# Altium integrated library TI Power Management Step-Down Regulator.IntLib: 531 symbols (part 29 of 32)
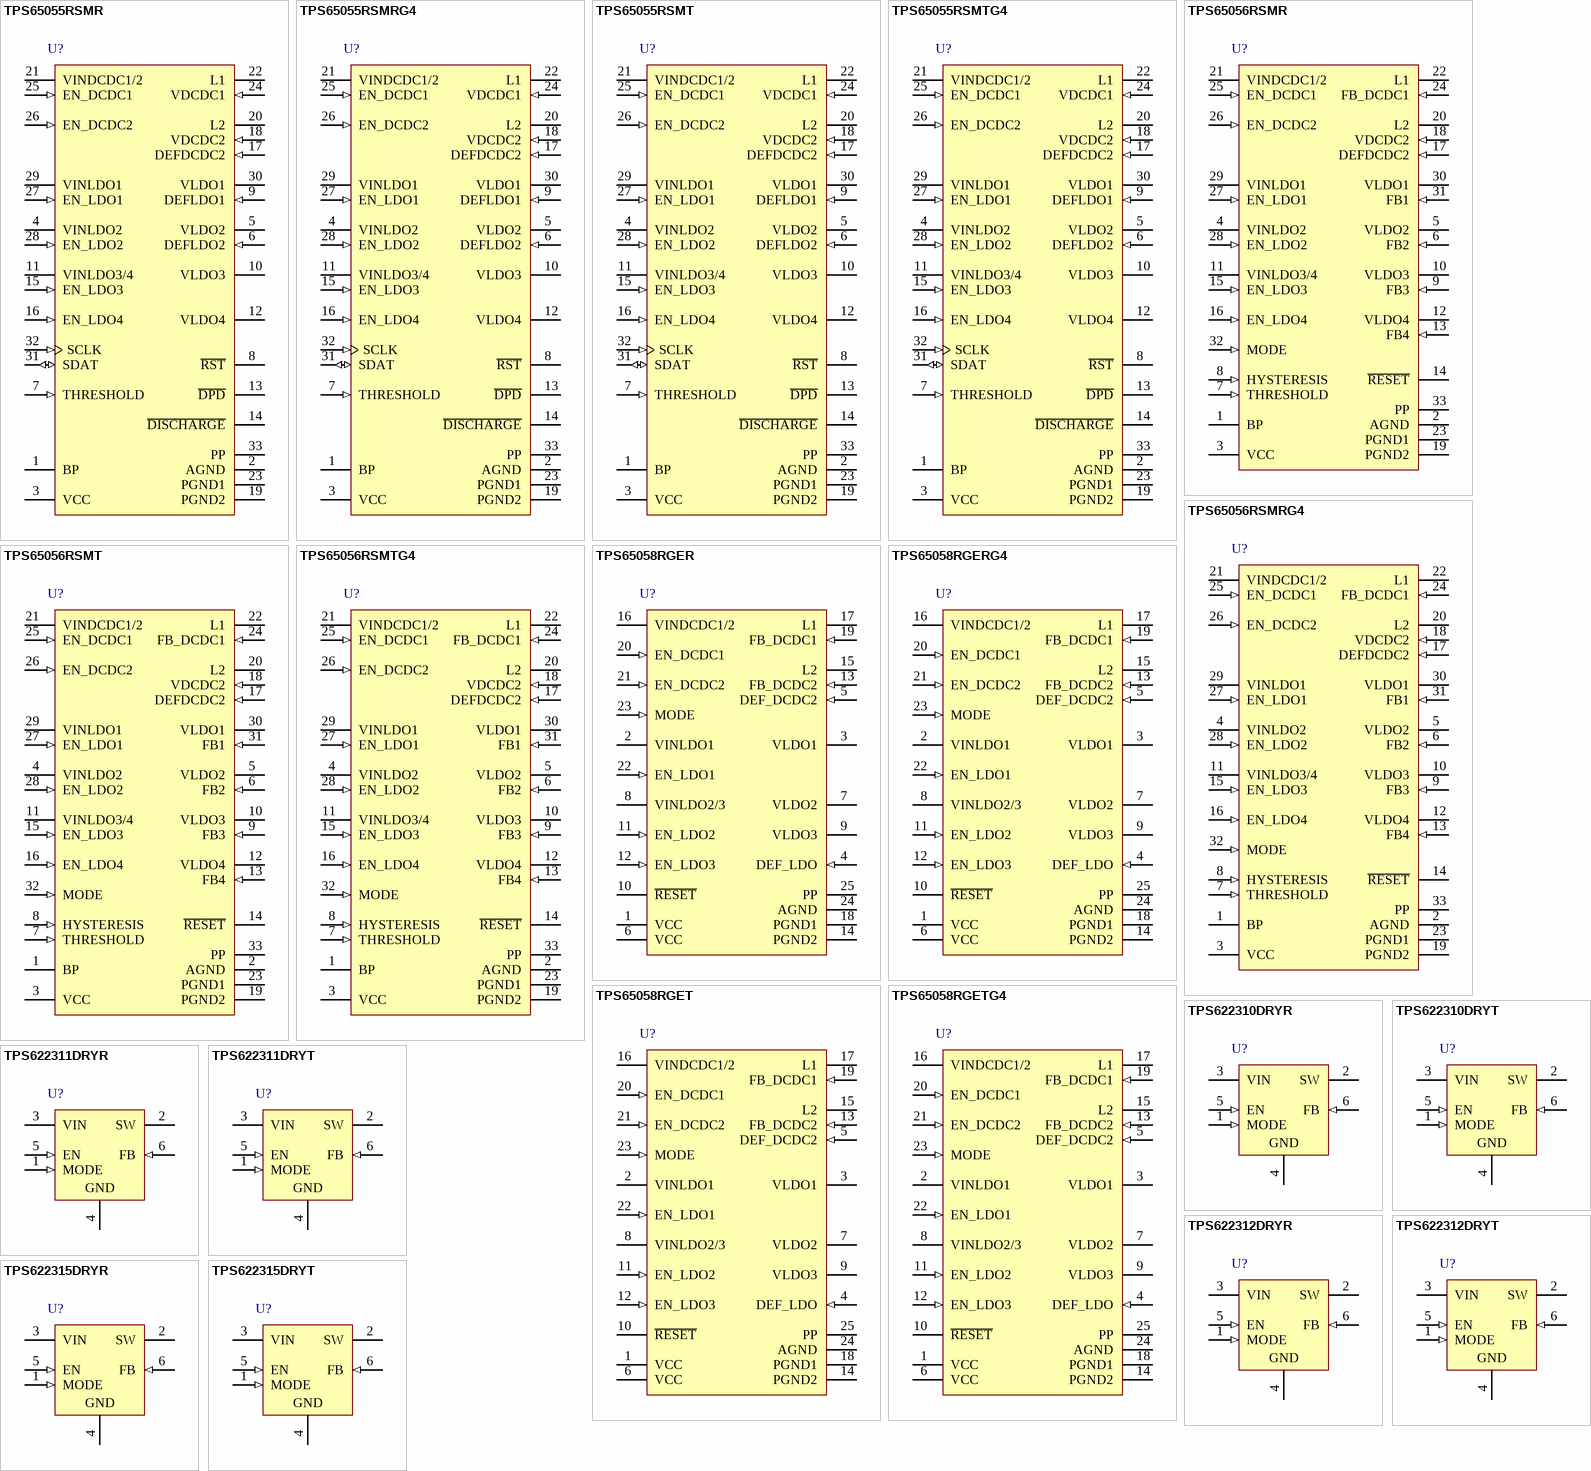
[diagram p46: symbols TPS65055RSMR to TPS622315DRYT]

## TPS65056RSMR
designator U?
Multi-Channel Power Management IC with 2.5 to 6 V Input, -40 to 85 degC, 32-Pin VQFN (RSM), Green (RoHS & no Sb/Br); PartNumber: TPS65056RSMR; Manufacturer: Texas Instruments; Dynamic Voltage Scaling: TRUE; Rating: Catalog; Regulated Outputs(#): 6; SubFamily: Step-Down Regulator; Vin(Min)(V): 2.5; DatasheetVersion: SLVS710A; PackageVersion: revB, Mar-2010; PackageReference: RSM32-2800X2800TP; PackageDescription: 32-Pin Plastic Quad Flat No-Lead, 4 x 4 mm Body, 0.4 mm Pitch, 2.8 x 2.8 mm Exposed Pad; Supplier 1: Digi-Key; Supplier Part Number 1: TPS65056RSMR-ND; Supplier 2: Mouser; Supplier Part Number 2: 595-TPS65056RSMR; Eco-Plan: Green (RoHS & no Sb/Br); Topology: Multi-Channel; Vin(Max)(V): 6; Mounting Technology: Surface Mount; ComponentLink1Description: Datasheet; ComponentLink1URL: http://www.ti.com/general/docs/lit/getliterature.tsp?genericPartNumber=TPS65056&fileType=pdf; ComponentLink2Description: URL Link1; ComponentLink2URL: Samples URL:http://www.ti.com/product/tps65056#samples
footprint RSM32-2800X2800TP (QFN, 32-Leads, Body 4x4mm, Pitch 0.4mm, Thermal Pad 2.8x2.8mm, TI Recommended)
pins: 1 BP "Input for bypass capacitor for internal reference.", 2 AGND (power) "Analog GND, connect to PGND and PowerPad", 3 VCC (power) "Power supply for digital and analog circuitry of DCDC1, DCDC2 and LDOs. This pin must be connected to the same voltage supply as VINDCDC1/2.", 4 VINLDO2 (power) "Input voltage for LDO2", 5 VLDO2 (power) "Output voltage of LDO2", 6 FB2 (in) "Feedback input for the external voltage divider.", 7 THRESHOLD (in) "Reset input", 8 HYSTERESIS (in) "Input for hysteresis on reset threshold", 9 FB3 (in) "Feedback input for the external voltage divider.", 10 VLDO3 (power) "Output voltage of LDO3", 11 VINLDO3/4 (power) "Input voltage for LDO3 and LDO4", 12 VLDO4 (power) "Output voltage of LDO4", 13 FB4 (in) "Feedback input for the external voltage divider.", 14 ~{RESET} (oc) "Open drain active low reset output, 100 ms reset delay time.", 15 EN_LDO3 (in) "Enable input for LDO3. Logic high enables the LDO, logic low disables the LDO.", 16 EN_LDO4 (in) "Enable input for LDO4. Logic high enables the LDO, logic low disables the LDO.", 17 DEFDCDC2 (in) "TPS65050 and TPS65051: Feedback pin for converter 2. Connect DEFDCDC2 to the center of the external resistor divider. TPS65052 and TPS65056: Select pin of converter 2 output voltage. High = 1.3 V, Low = 1 V TPS65054: Select (See Datasheet)", 18 VDCDC2 (in) "Feedback voltage sense input, connect directly to the output of converter 2.", 19 PGND2 (power) "GND for converter 2", 20 L2 (power) "Switch Pin of converter 2. Connected to Inductor.", 21 VINDCDC1/2 (power) "Input voltage for VDCDC1 and VDCDC2 step-down converter.This must be connected to the same voltage supply as VCC.", 22 L1 (power) "Switch pin of converter 1. Connected to Inductor .", 23 PGND1 (power) "GND for converter 1", 24 FB_DCDC1 (in) "Input to adjust output voltage of converter 1 between 0.6 V and VI. Connect external resistor divider between VOUT1, this pin, and GND.", 25 EN_DCDC1 (in) "Enable Input for converter 1, active high", 26 EN_DCDC2 (in) "Enable Input for converter 2, active high", 27 EN_LDO1 (in) "Enable input for LDO1. Logic high enables the LDO, logic low disables the LDO.", 28 EN_LDO2 (in) "Enable input for LDO2. Logic high enables the LDO, logic low disables the LDO.", 29 VINLDO1 (power) "Input voltage for LDO1", 30 VLDO1 (power) "Output voltage of LDO1", 31 FB1 (in) "Feedback input for the external voltage divider.", 32 MODE (in) "Select between Power Safe Mode and forced PWM Mode for DCDC1 and DCDC2. In Power Safe Mode, PFM is used at light loads, PWM for higher loads. If PIN is set to high level, forced PWM Mode is selected. If Pin has low level, (See Datasheet)", 33 PP (power) "Connect to GND"

## TPS65056RSMRG4
designator U?
Multi-Channel Power Management IC with 2.5 to 6 V Input, -40 to 85 degC, 32-Pin VQFN (RSM), Green (RoHS & no Sb/Br); PartNumber: TPS65056RSMRG4; Manufacturer: Texas Instruments; Dynamic Voltage Scaling: TRUE; Rating: Catalog; Regulated Outputs(#): 6; SubFamily: Step-Down Regulator; Vin(Min)(V): 2.5; DatasheetVersion: SLVS710A; PackageVersion: revB, Mar-2010; PackageReference: RSM32-2800X2800TP; PackageDescription: 32-Pin Plastic Quad Flat No-Lead, 4 x 4 mm Body, 0.4 mm Pitch, 2.8 x 2.8 mm Exposed Pad; Supplier 1: Digi-Key; Supplier Part Number 1: TPS65056RSMRG4-ND; Supplier 2: Mouser; Supplier Part Number 2: 595-TPS65056RSMRG4; Eco-Plan: Green (RoHS & no Sb/Br); Topology: Multi-Channel; Vin(Max)(V): 6; Mounting Technology: Surface Mount; ComponentLink1Description: Datasheet; ComponentLink1URL: http://www.ti.com/general/docs/lit/getliterature.tsp?genericPartNumber=TPS65056&fileType=pdf; ComponentLink2Description: URL Link1; ComponentLink2URL: Samples URL:http://www.ti.com/product/tps65056#samples
footprint RSM32-2800X2800TP (QFN, 32-Leads, Body 4x4mm, Pitch 0.4mm, Thermal Pad 2.8x2.8mm, TI Recommended)
pins: 1 BP "Input for bypass capacitor for internal reference.", 2 AGND (power) "Analog GND, connect to PGND and PowerPad", 3 VCC (power) "Power supply for digital and analog circuitry of DCDC1, DCDC2 and LDOs. This pin must be connected to the same voltage supply as VINDCDC1/2.", 4 VINLDO2 (power) "Input voltage for LDO2", 5 VLDO2 (power) "Output voltage of LDO2", 6 FB2 (in) "Feedback input for the external voltage divider.", 7 THRESHOLD (in) "Reset input", 8 HYSTERESIS (in) "Input for hysteresis on reset threshold", 9 FB3 (in) "Feedback input for the external voltage divider.", 10 VLDO3 (power) "Output voltage of LDO3", 11 VINLDO3/4 (power) "Input voltage for LDO3 and LDO4", 12 VLDO4 (power) "Output voltage of LDO4", 13 FB4 (in) "Feedback input for the external voltage divider.", 14 ~{RESET} (oc) "Open drain active low reset output, 100 ms reset delay time.", 15 EN_LDO3 (in) "Enable input for LDO3. Logic high enables the LDO, logic low disables the LDO.", 16 EN_LDO4 (in) "Enable input for LDO4. Logic high enables the LDO, logic low disables the LDO.", 17 DEFDCDC2 (in) "TPS65050 and TPS65051: Feedback pin for converter 2. Connect DEFDCDC2 to the center of the external resistor divider. TPS65052 and TPS65056: Select pin of converter 2 output voltage. High = 1.3 V, Low = 1 V TPS65054: Select (See Datasheet)", 18 VDCDC2 (in) "Feedback voltage sense input, connect directly to the output of converter 2.", 19 PGND2 (power) "GND for converter 2", 20 L2 (power) "Switch Pin of converter 2. Connected to Inductor.", 21 VINDCDC1/2 (power) "Input voltage for VDCDC1 and VDCDC2 step-down converter.This must be connected to the same voltage supply as VCC.", 22 L1 (power) "Switch pin of converter 1. Connected to Inductor .", 23 PGND1 (power) "GND for converter 1", 24 FB_DCDC1 (in) "Input to adjust output voltage of converter 1 between 0.6 V and VI. Connect external resistor divider between VOUT1, this pin, and GND.", 25 EN_DCDC1 (in) "Enable Input for converter 1, active high", 26 EN_DCDC2 (in) "Enable Input for converter 2, active high", 27 EN_LDO1 (in) "Enable input for LDO1. Logic high enables the LDO, logic low disables the LDO.", 28 EN_LDO2 (in) "Enable input for LDO2. Logic high enables the LDO, logic low disables the LDO.", 29 VINLDO1 (power) "Input voltage for LDO1", 30 VLDO1 (power) "Output voltage of LDO1", 31 FB1 (in) "Feedback input for the external voltage divider.", 32 MODE (in) "Select between Power Safe Mode and forced PWM Mode for DCDC1 and DCDC2. In Power Safe Mode, PFM is used at light loads, PWM for higher loads. If PIN is set to high level, forced PWM Mode is selected. If Pin has low level, (See Datasheet)", 33 PP (power) "Connect to GND"

## TPS65056RSMT
designator U?
Multi-Channel Power Management IC with 2.5 to 6 V Input, -40 to 85 degC, 32-Pin VQFN (RSM), Green (RoHS & no Sb/Br); PartNumber: TPS65056RSMT; Manufacturer: Texas Instruments; Dynamic Voltage Scaling: TRUE; Rating: Catalog; Regulated Outputs(#): 6; SubFamily: Step-Down Regulator; Vin(Min)(V): 2.5; DatasheetVersion: SLVS710A; PackageVersion: revB, Mar-2010; PackageReference: RSM32-2800X2800TP; PackageDescription: 32-Pin Plastic Quad Flat No-Lead, 4 x 4 mm Body, 0.4 mm Pitch, 2.8 x 2.8 mm Exposed Pad; Supplier 1: Digi-Key; Supplier Part Number 1: 296-21561-2-ND; Supplier 2: Digi-Key; Supplier Part Number 2: 296-21561-1-ND; Supplier 3: Digi-Key; Supplier Part Number 3: 296-21561-6-ND; Supplier 4: Farnell; Supplier Part Number 4: 1569532; Supplier 5: Newark; Supplier Part Number 5: 30M1849; Supplier 6: Mouser; Supplier Part Number 6: 595-TPS65056RSMT; Eco-Plan: Green (RoHS & no Sb/Br); Topology: Multi-Channel; Vin(Max)(V): 6; Mounting Technology: Surface Mount; ComponentLink1Description: Datasheet; ComponentLink1URL: http://www.ti.com/general/docs/lit/getliterature.tsp?genericPartNumber=TPS65056&fileType=pdf; ComponentLink2Description: URL Link1; ComponentLink2URL: Samples URL:http://www.ti.com/product/tps65056#samples
footprint RSM32-2800X2800TP (QFN, 32-Leads, Body 4x4mm, Pitch 0.4mm, Thermal Pad 2.8x2.8mm, TI Recommended)
pins: 1 BP "Input for bypass capacitor for internal reference.", 2 AGND (power) "Analog GND, connect to PGND and PowerPad", 3 VCC (power) "Power supply for digital and analog circuitry of DCDC1, DCDC2 and LDOs. This pin must be connected to the same voltage supply as VINDCDC1/2.", 4 VINLDO2 (power) "Input voltage for LDO2", 5 VLDO2 (power) "Output voltage of LDO2", 6 FB2 (in) "Feedback input for the external voltage divider.", 7 THRESHOLD (in) "Reset input", 8 HYSTERESIS (in) "Input for hysteresis on reset threshold", 9 FB3 (in) "Feedback input for the external voltage divider.", 10 VLDO3 (power) "Output voltage of LDO3", 11 VINLDO3/4 (power) "Input voltage for LDO3 and LDO4", 12 VLDO4 (power) "Output voltage of LDO4", 13 FB4 (in) "Feedback input for the external voltage divider.", 14 ~{RESET} (oc) "Open drain active low reset output, 100 ms reset delay time.", 15 EN_LDO3 (in) "Enable input for LDO3. Logic high enables the LDO, logic low disables the LDO.", 16 EN_LDO4 (in) "Enable input for LDO4. Logic high enables the LDO, logic low disables the LDO.", 17 DEFDCDC2 (in) "TPS65050 and TPS65051: Feedback pin for converter 2. Connect DEFDCDC2 to the center of the external resistor divider. TPS65052 and TPS65056: Select pin of converter 2 output voltage. High = 1.3 V, Low = 1 V TPS65054: Select (See Datasheet)", 18 VDCDC2 (in) "Feedback voltage sense input, connect directly to the output of converter 2.", 19 PGND2 (power) "GND for converter 2", 20 L2 (power) "Switch Pin of converter 2. Connected to Inductor.", 21 VINDCDC1/2 (power) "Input voltage for VDCDC1 and VDCDC2 step-down converter.This must be connected to the same voltage supply as VCC.", 22 L1 (power) "Switch pin of converter 1. Connected to Inductor .", 23 PGND1 (power) "GND for converter 1", 24 FB_DCDC1 (in) "Input to adjust output voltage of converter 1 between 0.6 V and VI. Connect external resistor divider between VOUT1, this pin, and GND.", 25 EN_DCDC1 (in) "Enable Input for converter 1, active high", 26 EN_DCDC2 (in) "Enable Input for converter 2, active high", 27 EN_LDO1 (in) "Enable input for LDO1. Logic high enables the LDO, logic low disables the LDO.", 28 EN_LDO2 (in) "Enable input for LDO2. Logic high enables the LDO, logic low disables the LDO.", 29 VINLDO1 (power) "Input voltage for LDO1", 30 VLDO1 (power) "Output voltage of LDO1", 31 FB1 (in) "Feedback input for the external voltage divider.", 32 MODE (in) "Select between Power Safe Mode and forced PWM Mode for DCDC1 and DCDC2. In Power Safe Mode, PFM is used at light loads, PWM for higher loads. If PIN is set to high level, forced PWM Mode is selected. If Pin has low level, (See Datasheet)", 33 PP (power) "Connect to GND"

## TPS65056RSMTG4
designator U?
Multi-Channel Power Management IC with 2.5 to 6 V Input, -40 to 85 degC, 32-Pin VQFN (RSM), Green (RoHS & no Sb/Br); PartNumber: TPS65056RSMTG4; Manufacturer: Texas Instruments; Dynamic Voltage Scaling: TRUE; Rating: Catalog; Regulated Outputs(#): 6; SubFamily: Step-Down Regulator; Vin(Min)(V): 2.5; DatasheetVersion: SLVS710A; PackageVersion: revB, Mar-2010; PackageReference: RSM32-2800X2800TP; PackageDescription: 32-Pin Plastic Quad Flat No-Lead, 4 x 4 mm Body, 0.4 mm Pitch, 2.8 x 2.8 mm Exposed Pad; Supplier 1: Digi-Key; Supplier Part Number 1: TPS65056RSMTG4-ND; Supplier 2: Newark; Supplier Part Number 2: 34M0205; Supplier 3: Mouser; Supplier Part Number 3: 595-TPS65056RSMTG4; Eco-Plan: Green (RoHS & no Sb/Br); Topology: Multi-Channel; Vin(Max)(V): 6; Mounting Technology: Surface Mount; ComponentLink1Description: Datasheet; ComponentLink1URL: http://www.ti.com/general/docs/lit/getliterature.tsp?genericPartNumber=TPS65056&fileType=pdf; ComponentLink2Description: URL Link1; ComponentLink2URL: Samples URL:http://www.ti.com/product/tps54611#samples
footprint RSM32-2800X2800TP (QFN, 32-Leads, Body 4x4mm, Pitch 0.4mm, Thermal Pad 2.8x2.8mm, TI Recommended)
pins: 1 BP "Input for bypass capacitor for internal reference.", 2 AGND (power) "Analog GND, connect to PGND and PowerPad", 3 VCC (power) "Power supply for digital and analog circuitry of DCDC1, DCDC2 and LDOs. This pin must be connected to the same voltage supply as VINDCDC1/2.", 4 VINLDO2 (power) "Input voltage for LDO2", 5 VLDO2 (power) "Output voltage of LDO2", 6 FB2 (in) "Feedback input for the external voltage divider.", 7 THRESHOLD (in) "Reset input", 8 HYSTERESIS (in) "Input for hysteresis on reset threshold", 9 FB3 (in) "Feedback input for the external voltage divider.", 10 VLDO3 (power) "Output voltage of LDO3", 11 VINLDO3/4 (power) "Input voltage for LDO3 and LDO4", 12 VLDO4 (power) "Output voltage of LDO4", 13 FB4 (in) "Feedback input for the external voltage divider.", 14 ~{RESET} (oc) "Open drain active low reset output, 100 ms reset delay time.", 15 EN_LDO3 (in) "Enable input for LDO3. Logic high enables the LDO, logic low disables the LDO.", 16 EN_LDO4 (in) "Enable input for LDO4. Logic high enables the LDO, logic low disables the LDO.", 17 DEFDCDC2 (in) "TPS65050 and TPS65051: Feedback pin for converter 2. Connect DEFDCDC2 to the center of the external resistor divider. TPS65052 and TPS65056: Select pin of converter 2 output voltage. High = 1.3 V, Low = 1 V TPS65054: Select (See Datasheet)", 18 VDCDC2 (in) "Feedback voltage sense input, connect directly to the output of converter 2.", 19 PGND2 (power) "GND for converter 2", 20 L2 (power) "Switch Pin of converter 2. Connected to Inductor.", 21 VINDCDC1/2 (power) "Input voltage for VDCDC1 and VDCDC2 step-down converter.This must be connected to the same voltage supply as VCC.", 22 L1 (power) "Switch pin of converter 1. Connected to Inductor .", 23 PGND1 (power) "GND for converter 1", 24 FB_DCDC1 (in) "Input to adjust output voltage of converter 1 between 0.6 V and VI. Connect external resistor divider between VOUT1, this pin, and GND.", 25 EN_DCDC1 (in) "Enable Input for converter 1, active high", 26 EN_DCDC2 (in) "Enable Input for converter 2, active high", 27 EN_LDO1 (in) "Enable input for LDO1. Logic high enables the LDO, logic low disables the LDO.", 28 EN_LDO2 (in) "Enable input for LDO2. Logic high enables the LDO, logic low disables the LDO.", 29 VINLDO1 (power) "Input voltage for LDO1", 30 VLDO1 (power) "Output voltage of LDO1", 31 FB1 (in) "Feedback input for the external voltage divider.", 32 MODE (in) "Select between Power Safe Mode and forced PWM Mode for DCDC1 and DCDC2. In Power Safe Mode, PFM is used at light loads, PWM for higher loads. If PIN is set to high level, forced PWM Mode is selected. If Pin has low level, (See Datasheet)", 33 PP (power) "Connect to GND"

## TPS65058RGER
designator U?
Multi-Channel Power Management IC with 2.5 to 6 V Input, -40 to 85 degC, 24-Pin VQFN (RGE), Green (RoHS & no Sb/Br); PartNumber: TPS65058RGER; Manufacturer: Texas Instruments; Dynamic Voltage Scaling: TRUE; Rating: Catalog; Regulated Outputs(#): 5; SubFamily: PMIC Solutions with and without Battery Charger; Vin(Max)(V): 6; Vin(Min)(V): 2.5; DatasheetVersion: SLVS851A; PackageVersion: revG, Jul-2011; PackageReference: RGE24-2700X2700TP; PackageDescription: 24-Pin Plastic Quad Flatpack No-Lead, 4 x 4 mm Body, 0.5 mm Pitch; Supplier 1: Digi-Key; Supplier Part Number 1: TPS65058RGER-ND; Supplier 2: Mouser; Supplier Part Number 2: 595-TPS65058RGER; Eco-Plan: Green (RoHS & no Sb/Br); Topology: Multi-Channel; Mounting Technology: Surface Mount; Code_JEDEC: MO-220; ComponentLink1Description: Datasheet; ComponentLink1URL: http://www.ti.com/general/docs/lit/getliterature.tsp?genericPartNumber=TPS65058&fileType=pdf; ComponentLink2Description: URL Link1; ComponentLink2URL: Samples URL:http://www.ti.com/product/tps65058#samples
footprint RGE24-2700X2700TP (QFN, 24-Leads, Body 4x4mm, Pitch 0.5mm, Thermal Pad 2.7x2.7mm, TI Recommended)
pins: 1 VCC (power) "Power supply for digital and analog circuitry of DCDC1, DCDC2 and LDOs. This pin must be connected to the same voltage supply as VINDCDC1/2.", 2 VINLDO1 (power) "Input voltage for LDO1", 3 VLDO1 (power) "Output voltage of LDO1", 4 DEF_LDO (in) "Switches output voltages at LDO1, logic high = 3.3V, logic low = 3.3V  Switches output voltages at LDO2, logic high = 1.8V, logic low = 1.2V  Switches output voltages at LDO3, logic high = 1.8V, logic low = 1.3V", 5 DEF_DCDC2 (in) "Switches output voltages at DCDC2, logic high = 1.8V, logic low = 1.2V", 6 VCC (power) "Power supply for digital and analog circuitry of DCDC1, DCDC2 and LDOs. This pin must be connected to the same voltage supply as VINDCDC1/2.", 7 VLDO2 (power) "Output voltage of LDO2", 8 VINLDO2/3 (power) "Input voltage for LDO2 and LDO3", 9 VLDO3 (power) "Output voltage of LDO3", 10 ~{RESET} (hiz) "Open drain active low reset output, 100ms reset delay time after both DCDC1 and DCDC2 are within 95% of nominal output voltage.", 11 EN_LDO2 (in) "Enable input for LDO2. Logic high enables the LDO, logic low disables the LDO.", 12 EN_LDO3 (in) "Enable input for LDO3. Logic high enables the LDO, logic low disables the LDO.", 13 FB_DCDC2 (in) "Feedback input for DCDC1", 14 PGND2 (power) "GND for converter 2", 15 L2 (power) "Switch Pin of converter 2. Connected to Inductor.", 16 VINDCDC1/2 (power) "Input voltage for VDCDC1 and VDCDC2 step-down converter. This must be connected to the same voltage supply as VCC.", 17 L1 (power) "Switch pin of converter 1. Connected to Inductor", 18 PGND1 (power) "GND for converter 1", 19 FB_DCDC1 (in) "Feedback input for DCDC1.", 20 EN_DCDC1 (in) "Enable Input for converter 1, active high", 21 EN_DCDC2 (in) "Enable Input for converter 2, active high", 22 EN_LDO1 (in) "Enable input for LDO1. Logic high enables the LDO, logic low disables the LDO.", 23 MODE (in) "Select between Power Safe Mode and forced PWM Mode for DCDC1 and DCDC2. In Power Safe Mode PFM is used at light loads, PWM for higher loads. If PIN is set to high level, forced PWM Mode is selected. If Pin has low level, (See Datasheet)", 24 AGND (power) "Analog GND, connect to PGND and PowerPAD", 25 PP (power) "Connect to GND"

## TPS65058RGERG4
designator U?
Multi-Channel Power Management IC with 2.5 to 6 V Input, -40 to 85 degC, 24-Pin VQFN (RGE), Green (RoHS & no Sb/Br); PartNumber: TPS65058RGERG4; Manufacturer: Texas Instruments; Dynamic Voltage Scaling: TRUE; Rating: Catalog; Regulated Outputs(#): 5; SubFamily: PMIC Solutions with and without Battery Charger; Vin(Max)(V): 6; Vin(Min)(V): 2.5; DatasheetVersion: SLVS851A; PackageVersion: revG, Jul-2011; PackageReference: RGE24-2700X2700TP; PackageDescription: 24-Pin Plastic Quad Flatpack No-Lead, 4 x 4 mm Body, 0.5 mm Pitch; Supplier 1: Digi-Key; Supplier Part Number 1: TPS65058RGERG4-ND; Supplier 2: Mouser; Supplier Part Number 2: 595-TPS65058RGERG4; Eco-Plan: Green (RoHS & no Sb/Br); Topology: Multi-Channel; Mounting Technology: Surface Mount; Code_JEDEC: MO-220; ComponentLink1Description: Datasheet; ComponentLink1URL: http://www.ti.com/general/docs/lit/getliterature.tsp?genericPartNumber=TPS65058&fileType=pdf; ComponentLink2Description: URL Link1; ComponentLink2URL: Samples URL:http://www.ti.com/product/tps65058#samples
footprint RGE24-2700X2700TP (QFN, 24-Leads, Body 4x4mm, Pitch 0.5mm, Thermal Pad 2.7x2.7mm, TI Recommended)
pins: 1 VCC (power) "Power supply for digital and analog circuitry of DCDC1, DCDC2 and LDOs. This pin must be connected to the same voltage supply as VINDCDC1/2.", 2 VINLDO1 (power) "Input voltage for LDO1", 3 VLDO1 (power) "Output voltage of LDO1", 4 DEF_LDO (in) "Switches output voltages at LDO1, logic high = 3.3V, logic low = 3.3V  Switches output voltages at LDO2, logic high = 1.8V, logic low = 1.2V  Switches output voltages at LDO3, logic high = 1.8V, logic low = 1.3V", 5 DEF_DCDC2 (in) "Switches output voltages at DCDC2, logic high = 1.8V, logic low = 1.2V", 6 VCC (power) "Power supply for digital and analog circuitry of DCDC1, DCDC2 and LDOs. This pin must be connected to the same voltage supply as VINDCDC1/2.", 7 VLDO2 (power) "Output voltage of LDO2", 8 VINLDO2/3 (power) "Input voltage for LDO2 and LDO3", 9 VLDO3 (power) "Output voltage of LDO3", 10 ~{RESET} (hiz) "Open drain active low reset output, 100ms reset delay time after both DCDC1 and DCDC2 are within 95% of nominal output voltage.", 11 EN_LDO2 (in) "Enable input for LDO2. Logic high enables the LDO, logic low disables the LDO.", 12 EN_LDO3 (in) "Enable input for LDO3. Logic high enables the LDO, logic low disables the LDO.", 13 FB_DCDC2 (in) "Feedback input for DCDC1", 14 PGND2 (power) "GND for converter 2", 15 L2 (power) "Switch Pin of converter 2. Connected to Inductor.", 16 VINDCDC1/2 (power) "Input voltage for VDCDC1 and VDCDC2 step-down converter. This must be connected to the same voltage supply as VCC.", 17 L1 (power) "Switch pin of converter 1. Connected to Inductor", 18 PGND1 (power) "GND for converter 1", 19 FB_DCDC1 (in) "Feedback input for DCDC1.", 20 EN_DCDC1 (in) "Enable Input for converter 1, active high", 21 EN_DCDC2 (in) "Enable Input for converter 2, active high", 22 EN_LDO1 (in) "Enable input for LDO1. Logic high enables the LDO, logic low disables the LDO.", 23 MODE (in) "Select between Power Safe Mode and forced PWM Mode for DCDC1 and DCDC2. In Power Safe Mode PFM is used at light loads, PWM for higher loads. If PIN is set to high level, forced PWM Mode is selected. If Pin has low level, (See Datasheet)", 24 AGND (power) "Analog GND, connect to PGND and PowerPAD", 25 PP (power) "Connect to GND"

## TPS65058RGET
designator U?
Multi-Channel Power Management IC with 2.5 to 6 V Input, -40 to 85 degC, 24-Pin VQFN (RGE), Green (RoHS & no Sb/Br); PartNumber: TPS65058RGET; Manufacturer: Texas Instruments; Dynamic Voltage Scaling: TRUE; Rating: Catalog; Regulated Outputs(#): 5; SubFamily: PMIC Solutions with and without Battery Charger; Vin(Max)(V): 6; Vin(Min)(V): 2.5; DatasheetVersion: SLVS851A; PackageVersion: revG, Jul-2011; PackageReference: RGE24-2700X2700TP; PackageDescription: 24-Pin Plastic Quad Flatpack No-Lead, 4 x 4 mm Body, 0.5 mm Pitch; Supplier 1: Digi-Key; Supplier Part Number 1: 296-23480-2-ND; Supplier 2: Digi-Key; Supplier Part Number 2: 296-23480-1-ND; Supplier 3: Farnell; Supplier Part Number 3: 1624212; Supplier 4: Newark; Supplier Part Number 4: 11N7837; Supplier 5: Mouser; Supplier Part Number 5: 595-TPS65058RGET; Eco-Plan: Green (RoHS & no Sb/Br); Topology: Multi-Channel; Mounting Technology: Surface Mount; Code_JEDEC: MO-220; ComponentLink1Description: Datasheet; ComponentLink1URL: http://www.ti.com/general/docs/lit/getliterature.tsp?genericPartNumber=TPS65058&fileType=pdf; ComponentLink2Description: URL Link1; ComponentLink2URL: Samples URL:http://www.ti.com/product/tps65058#samples
footprint RGE24-2700X2700TP (QFN, 24-Leads, Body 4x4mm, Pitch 0.5mm, Thermal Pad 2.7x2.7mm, TI Recommended)
pins: 1 VCC (power) "Power supply for digital and analog circuitry of DCDC1, DCDC2 and LDOs. This pin must be connected to the same voltage supply as VINDCDC1/2.", 2 VINLDO1 (power) "Input voltage for LDO1", 3 VLDO1 (power) "Output voltage of LDO1", 4 DEF_LDO (in) "Switches output voltages at LDO1, logic high = 3.3V, logic low = 3.3V  Switches output voltages at LDO2, logic high = 1.8V, logic low = 1.2V  Switches output voltages at LDO3, logic high = 1.8V, logic low = 1.3V", 5 DEF_DCDC2 (in) "Switches output voltages at DCDC2, logic high = 1.8V, logic low = 1.2V", 6 VCC (power) "Power supply for digital and analog circuitry of DCDC1, DCDC2 and LDOs. This pin must be connected to the same voltage supply as VINDCDC1/2.", 7 VLDO2 (power) "Output voltage of LDO2", 8 VINLDO2/3 (power) "Input voltage for LDO2 and LDO3", 9 VLDO3 (power) "Output voltage of LDO3", 10 ~{RESET} (hiz) "Open drain active low reset output, 100ms reset delay time after both DCDC1 and DCDC2 are within 95% of nominal output voltage.", 11 EN_LDO2 (in) "Enable input for LDO2. Logic high enables the LDO, logic low disables the LDO.", 12 EN_LDO3 (in) "Enable input for LDO3. Logic high enables the LDO, logic low disables the LDO.", 13 FB_DCDC2 (in) "Feedback input for DCDC1", 14 PGND2 (power) "GND for converter 2", 15 L2 (power) "Switch Pin of converter 2. Connected to Inductor.", 16 VINDCDC1/2 (power) "Input voltage for VDCDC1 and VDCDC2 step-down converter. This must be connected to the same voltage supply as VCC.", 17 L1 (power) "Switch pin of converter 1. Connected to Inductor", 18 PGND1 (power) "GND for converter 1", 19 FB_DCDC1 (in) "Feedback input for DCDC1.", 20 EN_DCDC1 (in) "Enable Input for converter 1, active high", 21 EN_DCDC2 (in) "Enable Input for converter 2, active high", 22 EN_LDO1 (in) "Enable input for LDO1. Logic high enables the LDO, logic low disables the LDO.", 23 MODE (in) "Select between Power Safe Mode and forced PWM Mode for DCDC1 and DCDC2. In Power Safe Mode PFM is used at light loads, PWM for higher loads. If PIN is set to high level, forced PWM Mode is selected. If Pin has low level, (See Datasheet)", 24 AGND (power) "Analog GND, connect to PGND and PowerPAD", 25 PP (power) "Connect to GND"

## TPS65058RGETG4
designator U?
Multi-Channel Power Management IC with 2.5 to 6 V Input, -40 to 85 degC, 24-Pin VQFN (RGE), Green (RoHS & no Sb/Br); PartNumber: TPS65058RGETG4; Manufacturer: Texas Instruments; Dynamic Voltage Scaling: TRUE; Rating: Catalog; Regulated Outputs(#): 5; SubFamily: PMIC Solutions with and without Battery Charger; Vin(Max)(V): 6; Vin(Min)(V): 2.5; DatasheetVersion: SLVS851A; PackageVersion: revG, Jul-2011; PackageReference: RGE24-2700X2700TP; PackageDescription: 24-Pin Plastic Quad Flatpack No-Lead, 4 x 4 mm Body, 0.5 mm Pitch; Supplier 1: Digi-Key; Supplier Part Number 1: TPS65058RGETG4-ND; Supplier 2: Mouser; Supplier Part Number 2: 595-TPS65058RGETG4; Eco-Plan: Green (RoHS & no Sb/Br); Topology: Multi-Channel; Mounting Technology: Surface Mount; Code_JEDEC: MO-220; ComponentLink1Description: Datasheet; ComponentLink1URL: http://www.ti.com/general/docs/lit/getliterature.tsp?genericPartNumber=TPS65058&fileType=pdf; ComponentLink2Description: URL Link1; ComponentLink2URL: Samples URL:http://www.ti.com/product/tps54611#samples
footprint RGE24-2700X2700TP (QFN, 24-Leads, Body 4x4mm, Pitch 0.5mm, Thermal Pad 2.7x2.7mm, TI Recommended)
pins: 1 VCC (power) "Power supply for digital and analog circuitry of DCDC1, DCDC2 and LDOs. This pin must be connected to the same voltage supply as VINDCDC1/2.", 2 VINLDO1 (power) "Input voltage for LDO1", 3 VLDO1 (power) "Output voltage of LDO1", 4 DEF_LDO (in) "Switches output voltages at LDO1, logic high = 3.3V, logic low = 3.3V  Switches output voltages at LDO2, logic high = 1.8V, logic low = 1.2V  Switches output voltages at LDO3, logic high = 1.8V, logic low = 1.3V", 5 DEF_DCDC2 (in) "Switches output voltages at DCDC2, logic high = 1.8V, logic low = 1.2V", 6 VCC (power) "Power supply for digital and analog circuitry of DCDC1, DCDC2 and LDOs. This pin must be connected to the same voltage supply as VINDCDC1/2.", 7 VLDO2 (power) "Output voltage of LDO2", 8 VINLDO2/3 (power) "Input voltage for LDO2 and LDO3", 9 VLDO3 (power) "Output voltage of LDO3", 10 ~{RESET} (hiz) "Open drain active low reset output, 100ms reset delay time after both DCDC1 and DCDC2 are within 95% of nominal output voltage.", 11 EN_LDO2 (in) "Enable input for LDO2. Logic high enables the LDO, logic low disables the LDO.", 12 EN_LDO3 (in) "Enable input for LDO3. Logic high enables the LDO, logic low disables the LDO.", 13 FB_DCDC2 (in) "Feedback input for DCDC1", 14 PGND2 (power) "GND for converter 2", 15 L2 (power) "Switch Pin of converter 2. Connected to Inductor.", 16 VINDCDC1/2 (power) "Input voltage for VDCDC1 and VDCDC2 step-down converter. This must be connected to the same voltage supply as VCC.", 17 L1 (power) "Switch pin of converter 1. Connected to Inductor", 18 PGND1 (power) "GND for converter 1", 19 FB_DCDC1 (in) "Feedback input for DCDC1.", 20 EN_DCDC1 (in) "Enable Input for converter 1, active high", 21 EN_DCDC2 (in) "Enable Input for converter 2, active high", 22 EN_LDO1 (in) "Enable input for LDO1. Logic high enables the LDO, logic low disables the LDO.", 23 MODE (in) "Select between Power Safe Mode and forced PWM Mode for DCDC1 and DCDC2. In Power Safe Mode PFM is used at light loads, PWM for higher loads. If PIN is set to high level, forced PWM Mode is selected. If Pin has low level, (See Datasheet)", 24 AGND (power) "Analog GND, connect to PGND and PowerPAD", 25 PP (power) "Connect to GND"

## TPS622310DRYR
designator U?
Buck Step Down Regulator with 2.05 to 6 V Input and 2.3 V Output, -40 to 85 degC, 6-Pin SON (DRY), Green (RoHS & no Sb/Br); PartNumber: TPS622310DRYR; Manufacturer: Texas Instruments; Duty Cycle(Max)(%): 100; Iout(Max)(A): 0.5; Iq(Typ)(mA): 0.022; Preset Vout(V): 2.3; Rating: Catalog; Regulated Outputs(#): 1; SubFamily: Step-Down Regulator; Switch Current Limit(Typ)(A): 0.84; Synchronous Rectification: False; Vin(Max)(V): 6; Vin(Min)(V): 2.05; DatasheetVersion: SLVS941E; PackageVersion: revF, Dec-2011; PackageReference: DRY6; PackageDescription: 6-Pin Plastic Small Outline No-Lead, 1 x 1.45 x 0.6 mm Body, 0.5 mm Pitch; Supplier 1: Digi-Key; Supplier Part Number 1: TPS622310DRYR-ND; Supplier 2: Newark; Supplier Part Number 2: 55R7610; Supplier 3: Mouser; Supplier Part Number 3: 595-TPS622310DRYR; Eco-Plan: Green (RoHS & no Sb/Br); Topology: Buck; Vout(Max)(V): 2.3; Vout(Min)(V): 2.3; Mounting Technology: Surface Mount; ComponentLink1Description: Datasheet; ComponentLink1URL: http://www.ti.com/general/docs/lit/getliterature.tsp?genericPartNumber=TPS622310&fileType=pdf; ComponentLink2Description: URL Link1; ComponentLink2URL: Samples URL:http://www.ti.com/product/tps622310#samples
footprint DRY6 (PSON, 6-Leads, Body 1x1.45mm, Pitch 0.5mm, TI Recommended)
pins: 1 MODE (in) "MODE pin = high forces the device to operate in PWM mode. Mode = low enables the Power Save Mode with automatic transition from PFM (Pulse frequency mode) to PWM (pulse width modulation) mode.", 2 SW (power) "This is the switch pin and is connected to the internal MOSFET switches. Connect the inductor to this terminal", 3 VIN (power) "VIN power supply pin.", 4 GND (power) "GND supply pin", 5 EN (in) "This is the enable pin of the device. Pulling this pin to low forces the device into shutdown mode. Pulling this pin to high enables the device. This pin must be terminated.", 6 FB (in) "Feedback Pin for the internal regulation loop. Connect this pin directly to the output capacitor."

## TPS622310DRYT
designator U?
Buck Step Down Regulator with 2.05 to 6 V Input and 2.3 V Output, -40 to 85 degC, 6-Pin SON (DRY), Green (RoHS & no Sb/Br); PartNumber: TPS622310DRYT; Manufacturer: Texas Instruments; Duty Cycle(Max)(%): 100; Iout(Max)(A): 0.5; Iq(Typ)(mA): 0.022; Preset Vout(V): 2.3; Rating: Catalog; Regulated Outputs(#): 1; SubFamily: Step-Down Regulator; Switch Current Limit(Typ)(A): 0.84; Synchronous Rectification: False; Vin(Max)(V): 6; Vin(Min)(V): 2.05; DatasheetVersion: SLVS941E; PackageVersion: revF, Dec-2011; PackageReference: DRY6; PackageDescription: 6-Pin Plastic Small Outline No-Lead, 1 x 1.45 x 0.6 mm Body, 0.5 mm Pitch; Supplier 1: Digi-Key; Supplier Part Number 1: 296-25323-2-ND; Supplier 2: Digi-Key; Supplier Part Number 2: 296-25323-1-ND; Supplier 3: Digi-Key; Supplier Part Number 3: 296-25323-6-ND; Supplier 4: Newark; Supplier Part Number 4: 55R7611; Supplier 5: Mouser; Supplier Part Number 5: 595-TPS622310DRYT; Eco-Plan: Green (RoHS & no Sb/Br); Topology: Buck; Vout(Max)(V): 2.3; Vout(Min)(V): 2.3; Mounting Technology: Surface Mount; ComponentLink1Description: Datasheet; ComponentLink1URL: http://www.ti.com/general/docs/lit/getliterature.tsp?genericPartNumber=TPS622310&fileType=pdf; ComponentLink2Description: URL Link1; ComponentLink2URL: Samples URL:http://www.ti.com/product/tps622310#samples
footprint DRY6 (PSON, 6-Leads, Body 1x1.45mm, Pitch 0.5mm, TI Recommended)
pins: 1 MODE (in) "MODE pin = high forces the device to operate in PWM mode. Mode = low enables the Power Save Mode with automatic transition from PFM (Pulse frequency mode) to PWM (pulse width modulation) mode.", 2 SW (power) "This is the switch pin and is connected to the internal MOSFET switches. Connect the inductor to this terminal", 3 VIN (power) "VIN power supply pin.", 4 GND (power) "GND supply pin", 5 EN (in) "This is the enable pin of the device. Pulling this pin to low forces the device into shutdown mode. Pulling this pin to high enables the device. This pin must be terminated.", 6 FB (in) "Feedback Pin for the internal regulation loop. Connect this pin directly to the output capacitor."

## TPS622311DRYR
designator U?
Buck Step Down Regulator with 2.05 to 6 V Input and 1.1 V Output, -40 to 85 degC, 6-Pin SON (DRY), Green (RoHS & no Sb/Br); PartNumber: TPS622311DRYR; Manufacturer: Texas Instruments; Duty Cycle(Max)(%): 100; Iout(Max)(A): 0.5; Iq(Typ)(mA): 0.022; Preset Vout(V): 1.1; Rating: Catalog; Regulated Outputs(#): 1; SubFamily: Step-Down Regulator; Switch Current Limit(Typ)(A): 0.84; Vin(Max)(V): 6; Vin(Min)(V): 2.05; DatasheetVersion: SLVS941E; PackageVersion: revF, Dec-2011; PackageReference: DRY6; PackageDescription: 6-Pin Plastic Small Outline No-Lead, 1 x 1.45 x 0.6 mm Body, 0.5 mm Pitch; Supplier 1: Digi-Key; Supplier Part Number 1: TPS622311DRYR-ND; Supplier 2: Newark; Supplier Part Number 2: 64R0761; Supplier 3: Mouser; Supplier Part Number 3: 595-TPS622311DRYR; Eco-Plan: Green (RoHS & no Sb/Br); Topology: Buck; Vout(Max)(V): 1.1; Vout(Min)(V): 1.1; Mounting Technology: Surface Mount; ComponentLink1Description: Datasheet; ComponentLink1URL: http://www.ti.com/general/docs/lit/getliterature.tsp?genericPartNumber=TPS622311&fileType=pdf; ComponentLink2Description: URL Link1; ComponentLink2URL: Samples URL:http://www.ti.com/product/tps622311#samples
footprint DRY6 (PSON, 6-Leads, Body 1x1.45mm, Pitch 0.5mm, TI Recommended)
pins: 1 MODE (in) "MODE pin = high forces the device to operate in PWM mode. Mode = low enables the Power Save Mode with automatic transition from PFM (Pulse frequency mode) to PWM (pulse width modulation) mode.", 2 SW (power) "This is the switch pin and is connected to the internal MOSFET switches. Connect the inductor to this terminal", 3 VIN (power) "VIN power supply pin", 4 GND (power) "GND supply pin", 5 EN (in) "This is the enable pin of the device. Pulling this pin to low forces the device into shutdown mode. Pulling this pin to high enables the device. This pin must be terminated.", 6 FB (in) "Feedback Pin for the internal regulation loop. Connect this pin directly to the output capacitor"

## TPS622311DRYT
designator U?
Buck Step Down Regulator with 2.05 to 6 V Input and 1.1 V Output, -40 to 85 degC, 6-Pin SON (DRY), Green (RoHS & no Sb/Br); PartNumber: TPS622311DRYT; Manufacturer: Texas Instruments; Duty Cycle(Max)(%): 100; Iout(Max)(A): 0.5; Iq(Typ)(mA): 0.022; Preset Vout(V): 1.1; Rating: Catalog; Regulated Outputs(#): 1; SubFamily: Step-Down Regulator; Switch Current Limit(Typ)(A): 0.84; Vin(Max)(V): 6; Vin(Min)(V): 2.05; DatasheetVersion: SLVS941E; PackageVersion: revF, Dec-2011; PackageReference: DRY6; PackageDescription: 6-Pin Plastic Small Outline No-Lead, 1 x 1.45 x 0.6 mm Body, 0.5 mm Pitch; Supplier 1: Digi-Key; Supplier Part Number 1: 296-25627-2-ND; Supplier 2: Digi-Key; Supplier Part Number 2: 296-25627-1-ND; Supplier 3: Digi-Key; Supplier Part Number 3: 296-25627-6-ND; Supplier 4: Newark; Supplier Part Number 4: 64R0762; Supplier 5: Mouser; Supplier Part Number 5: 595-TPS622311DRYT; Eco-Plan: Green (RoHS & no Sb/Br); Topology: Buck; Vout(Max)(V): 1.1; Vout(Min)(V): 1.1; Mounting Technology: Surface Mount; ComponentLink1Description: Datasheet; ComponentLink1URL: http://www.ti.com/general/docs/lit/getliterature.tsp?genericPartNumber=TPS622311&fileType=pdf; ComponentLink2Description: URL Link1; ComponentLink2URL: Samples URL:http://www.ti.com/product/tps54611#samples
footprint DRY6 (PSON, 6-Leads, Body 1x1.45mm, Pitch 0.5mm, TI Recommended)
pins: 1 MODE (in) "MODE pin = high forces the device to operate in PWM mode. Mode = low enables the Power Save Mode with automatic transition from PFM (Pulse frequency mode) to PWM (pulse width modulation) mode.", 2 SW (power) "This is the switch pin and is connected to the internal MOSFET switches. Connect the inductor to this terminal", 3 VIN (power) "VIN power supply pin", 4 GND (power) "GND supply pin", 5 EN (in) "This is the enable pin of the device. Pulling this pin to low forces the device into shutdown mode. Pulling this pin to high enables the device. This pin must be terminated.", 6 FB (in) "Feedback Pin for the internal regulation loop. Connect this pin directly to the output capacitor"

## TPS622312DRYR
designator U?
Buck Step Down Regulator with 2.05 to 6 V Input and 2 V Output, -40 to 85 degC, 6-Pin SON (DRY), Green (RoHS & no Sb/Br); PartNumber: TPS622312DRYR; Manufacturer: Texas Instruments; Duty Cycle(Max)(%): 100; Iout(Max)(A): 0.5; Iq(Typ)(mA): 0.022; Preset Vout(V): 2; Rating: Catalog; Regulated Outputs(#): 1; SubFamily: Step-Down Regulator; Switch Current Limit(Typ)(A): 0.84; Vin(Max)(V): 6; Vin(Min)(V): 2.05; DatasheetVersion: SLVS941E; PackageVersion: revF, Dec-2011; PackageReference: DRY6; PackageDescription: 6-Pin Plastic Small Outline No-Lead, 1 x 1.45 x 0.6 mm Body, 0.5 mm Pitch; Supplier 1: Digi-Key; Supplier Part Number 1: TPS622312DRYR-ND; Supplier 2: Newark; Supplier Part Number 2: 74R6621; Supplier 3: Mouser; Supplier Part Number 3: 595-TPS622312DRYR; Eco-Plan: Green (RoHS & no Sb/Br); Topology: Buck; Vout(Max)(V): 2; Vout(Min)(V): 2; Mounting Technology: Surface Mount; ComponentLink1Description: Datasheet; ComponentLink1URL: http://www.ti.com/general/docs/lit/getliterature.tsp?genericPartNumber=TPS622312&fileType=pdf; ComponentLink2Description: URL Link1; ComponentLink2URL: Samples URL:http://www.ti.com/product/tps622312#samples
footprint DRY6 (PSON, 6-Leads, Body 1x1.45mm, Pitch 0.5mm, TI Recommended)
pins: 1 MODE (in) "MODE pin = high forces the device to operate in PWM mode. Mode = low enables the Power Save Mode with automatic transition from PFM (Pulse frequency mode) to PWM (pulse width modulation) mode.", 2 SW (power) "This is the switch pin and is connected to the internal MOSFET switches. Connect the inductor to this terminal", 3 VIN (power) "VIN power supply pin.", 4 GND (power) "GND supply pin", 5 EN (in) "This is the enable pin of the device. Pulling this pin to low forces the device into shutdown mode. Pulling this pin to high enables the device. This pin must be terminated.", 6 FB (in) "Feedback Pin for the internal regulation loop. Connect this pin directly to the output capacitor."

## TPS622312DRYT
designator U?
Buck Step Down Regulator with 2.05 to 6 V Input and 2 V Output, -40 to 85 degC, 6-Pin SON (DRY), Green (RoHS & no Sb/Br); PartNumber: TPS622312DRYT; Manufacturer: Texas Instruments; Duty Cycle(Max)(%): 100; Iout(Max)(A): 0.5; Iq(Typ)(mA): 0.022; Preset Vout(V): 2; Rating: Catalog; Regulated Outputs(#): 1; SubFamily: Step-Down Regulator; Switch Current Limit(Typ)(A): 0.84; Vin(Max)(V): 6; Vin(Min)(V): 2.05; DatasheetVersion: SLVS941E; PackageVersion: revF, Dec-2011; PackageReference: DRY6; PackageDescription: 6-Pin Plastic Small Outline No-Lead, 1 x 1.45 x 0.6 mm Body, 0.5 mm Pitch; Supplier 1: Digi-Key; Supplier Part Number 1: 296-27317-2-ND; Supplier 2: Digi-Key; Supplier Part Number 2: 296-27317-1-ND; Supplier 3: Digi-Key; Supplier Part Number 3: 296-27317-6-ND; Supplier 4: Newark; Supplier Part Number 4: 74R6622; Supplier 5: Mouser; Supplier Part Number 5: 595-TPS622312DRYT; Eco-Plan: Green (RoHS & no Sb/Br); Topology: Buck; Vout(Max)(V): 2; Vout(Min)(V): 2; Mounting Technology: Surface Mount; ComponentLink1Description: Datasheet; ComponentLink1URL: http://www.ti.com/general/docs/lit/getliterature.tsp?genericPartNumber=TPS622312&fileType=pdf; ComponentLink2Description: URL Link1; ComponentLink2URL: Samples URL:http://www.ti.com/product/tps54611#samples
footprint DRY6 (PSON, 6-Leads, Body 1x1.45mm, Pitch 0.5mm, TI Recommended)
pins: 1 MODE (in) "MODE pin = high forces the device to operate in PWM mode. Mode = low enables the Power Save Mode with automatic transition from PFM (Pulse frequency mode) to PWM (pulse width modulation) mode.", 2 SW (power) "This is the switch pin and is connected to the internal MOSFET switches. Connect the inductor to this terminal", 3 VIN (power) "VIN power supply pin.", 4 GND (power) "GND supply pin", 5 EN (in) "This is the enable pin of the device. Pulling this pin to low forces the device into shutdown mode. Pulling this pin to high enables the device. This pin must be terminated.", 6 FB (in) "Feedback Pin for the internal regulation loop. Connect this pin directly to the output capacitor."

## TPS622315DRYR
designator U?
Buck Step Down Regulator with 2.05 to 6 V Input and 1.15 V Output, -40 to 85 degC, 6-Pin SON (DRY), Green (RoHS & no Sb/Br); PartNumber: TPS622315DRYR; Manufacturer: Texas Instruments; Duty Cycle(Max)(%): 100; Iout(Max)(A): 0.5; Iq(Typ)(mA): 0.022; Preset Vout(V): 1.15; Rating: Catalog; Regulated Outputs(#): 1; SubFamily: Step-Down Regulator; Switch Current Limit(Typ)(A): 0.84; Synchronous Rectification: TRUE; Vin(Max)(V): 6; Vin(Min)(V): 2.05; DatasheetVersion: SLVS941E; PackageVersion: revF, Dec-2011; PackageReference: DRY6; PackageDescription: 6-Pin Plastic Small Outline No-Lead, 1 x 1.45 x 0.6 mm Body, 0.5 mm Pitch; Supplier 1: Digi-Key; Supplier Part Number 1: TPS622315DRYR-ND; Supplier 2: Mouser; Supplier Part Number 2: 595-TPS622315DRYR; Eco-Plan: Green (RoHS & no Sb/Br); Topology: Buck; Vout(Max)(V): 1.15; Vout(Min)(V): 1.15; Mounting Technology: Surface Mount; ComponentLink1Description: Datasheet; ComponentLink1URL: http://www.ti.com/general/docs/lit/getliterature.tsp?genericPartNumber=TPS622315&fileType=pdf; ComponentLink2Description: URL Link1; ComponentLink2URL: Samples URL:http://www.ti.com/product/tps622315#samples
footprint DRY6 (PSON, 6-Leads, Body 1x1.45mm, Pitch 0.5mm, TI Recommended)
pins: 1 MODE (in) "MODE pin = high forces the device to operate in PWM mode. Mode = low enables the Power Save Mode with automatic transition from PFM (Pulse frequency mode) to PWM (pulse width modulation) mode.", 2 SW (power) "This is the switch pin and is connected to the internal MOSFET switches. Connect the inductor to this terminal.", 3 VIN (power) "VIN power supply pin.", 4 GND (power) "GND supply pin.", 5 EN (in) "This is the enable pin of the device. Pulling this pin to low forces the device into shutdown mode. Pulling this pin to high enables the device. This pin must be terminated.", 6 FB (in) "Feedback Pin for the internal regulation loop. Connect this pin directly to the output capacitor."

## TPS622315DRYT
designator U?
Buck Step Down Regulator with 2.05 to 6 V Input and 1.15 V Output, -40 to 85 degC, 6-Pin SON (DRY), Green (RoHS & no Sb/Br); PartNumber: TPS622315DRYT; Manufacturer: Texas Instruments; Duty Cycle(Max)(%): 100; Iout(Max)(A): 0.5; Iq(Typ)(mA): 0.022; Preset Vout(V): 1.15; Rating: Catalog; Regulated Outputs(#): 1; SubFamily: Step-Down Regulator; Switch Current Limit(Typ)(A): 0.84; Synchronous Rectification: TRUE; Vin(Max)(V): 6; Vin(Min)(V): 2.05; DatasheetVersion: SLVS941E; PackageVersion: revF, Dec-2011; PackageReference: DRY6; PackageDescription: 6-Pin Plastic Small Outline No-Lead, 1 x 1.45 x 0.6 mm Body, 0.5 mm Pitch; Supplier 1: Digi-Key; Supplier Part Number 1: 296-27849-2-ND; Supplier 2: Digi-Key; Supplier Part Number 2: 296-27849-1-ND; Supplier 3: Digi-Key; Supplier Part Number 3: 296-27849-6-ND; Supplier 4: Mouser; Supplier Part Number 4: 595-TPS622315DRYT; Eco-Plan: Green (RoHS & no Sb/Br); Topology: Buck; Vout(Max)(V): 1.15; Vout(Min)(V): 1.15; Mounting Technology: Surface Mount; ComponentLink1Description: Datasheet; ComponentLink1URL: http://www.ti.com/general/docs/lit/getliterature.tsp?genericPartNumber=TPS622315&fileType=pdf; ComponentLink2Description: URL Link1; ComponentLink2URL: Samples URL:http://www.ti.com/product/tps54611#samples
footprint DRY6 (PSON, 6-Leads, Body 1x1.45mm, Pitch 0.5mm, TI Recommended)
pins: 1 MODE (in) "MODE pin = high forces the device to operate in PWM mode. Mode = low enables the Power Save Mode with automatic transition from PFM (Pulse frequency mode) to PWM (pulse width modulation) mode.", 2 SW (power) "This is the switch pin and is connected to the internal MOSFET switches. Connect the inductor to this terminal.", 3 VIN (power) "VIN power supply pin.", 4 GND (power) "GND supply pin.", 5 EN (in) "This is the enable pin of the device. Pulling this pin to low forces the device into shutdown mode. Pulling this pin to high enables the device. This pin must be terminated.", 6 FB (in) "Feedback Pin for the internal regulation loop. Connect this pin directly to the output capacitor."

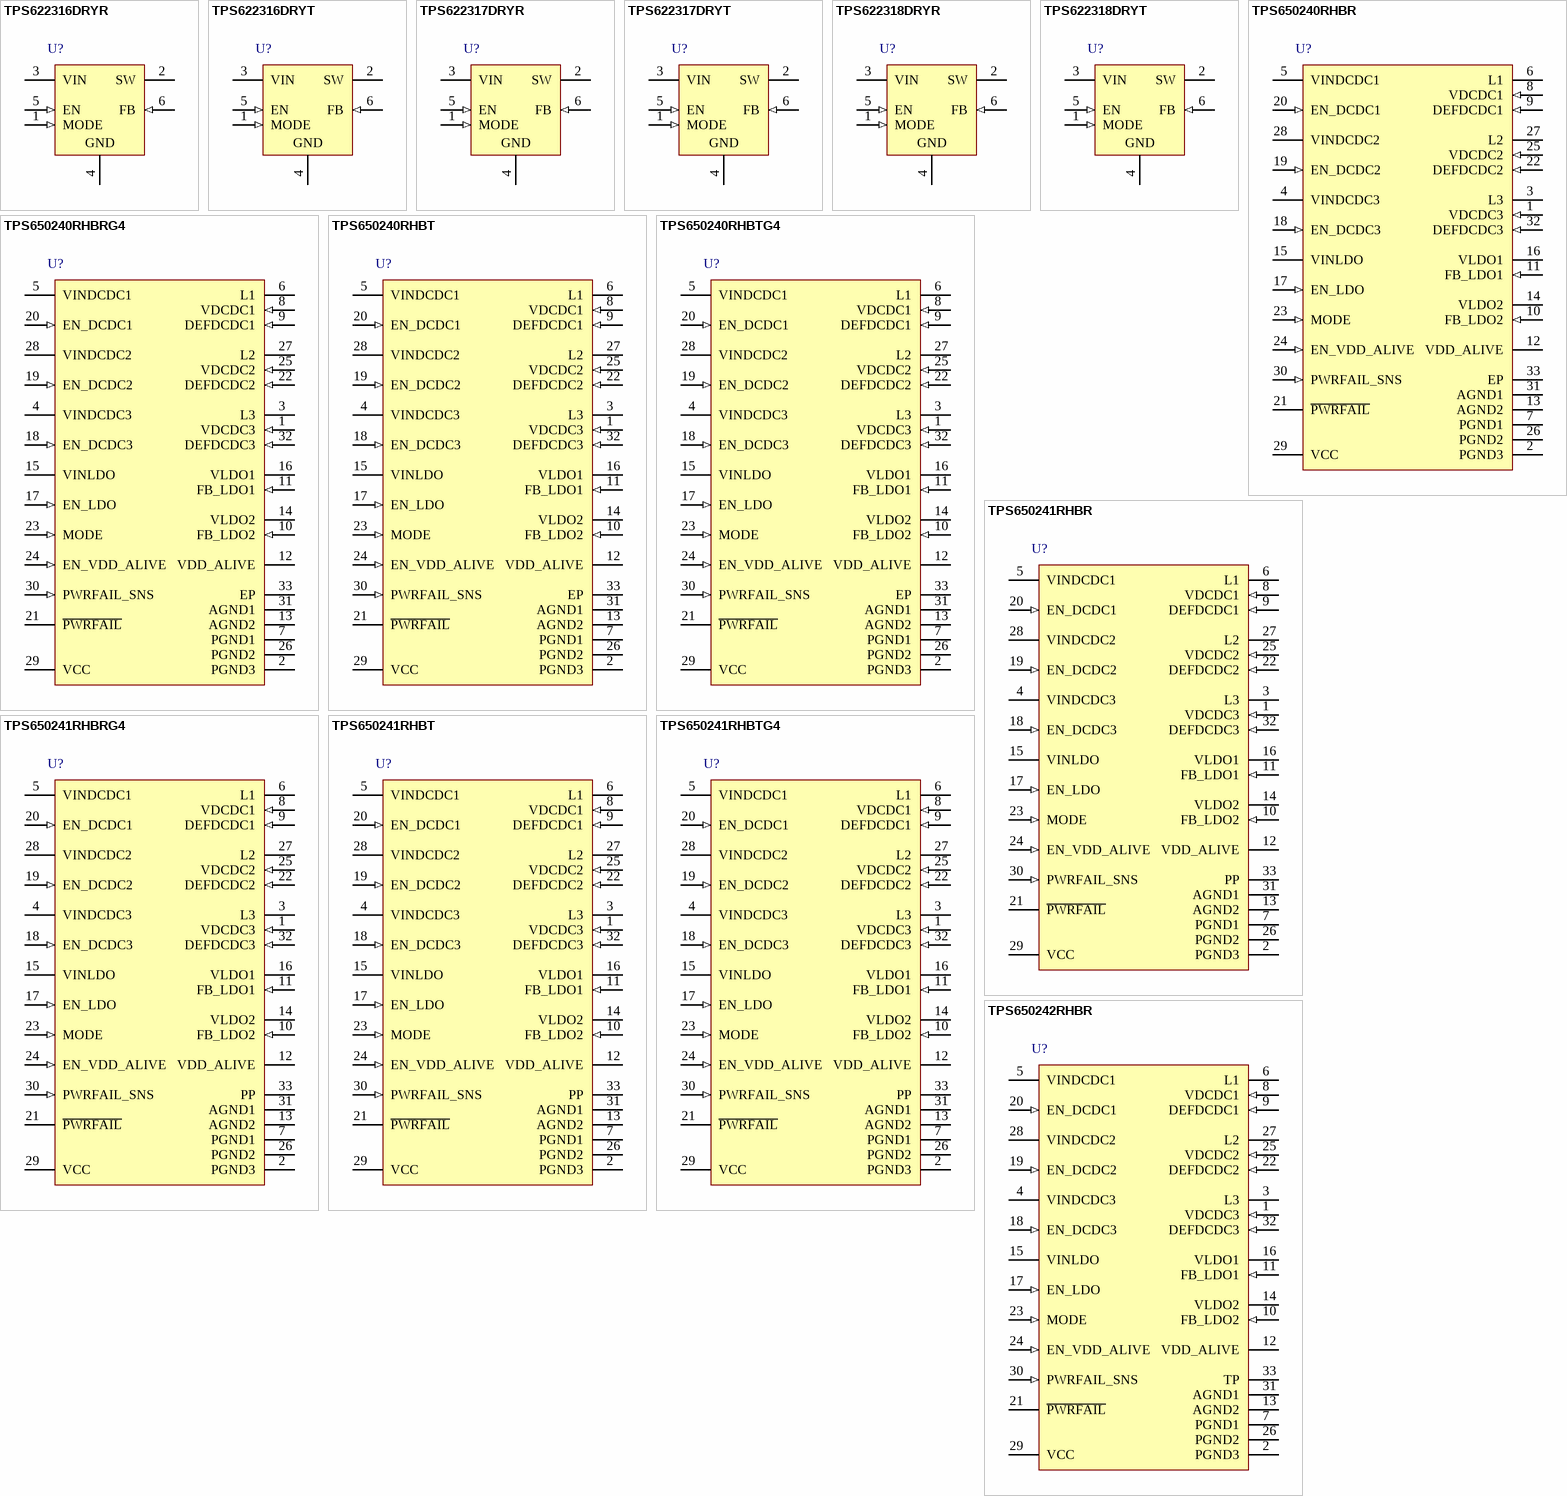
[diagram p16: symbols TPS622316DRYR to TPS650242RHBR]

## TPS622316DRYR
designator U?
Buck Step Down Regulator with 2.05 to 6 V Input and 2.7 V Output, -40 to 85 degC, 6-Pin SON (DRY), Green (RoHS & no Sb/Br); PartNumber: TPS622316DRYR; Manufacturer: Texas Instruments; Duty Cycle(Max)(%): 100; Iout(Max)(A): 0.5; Iq(Typ)(mA): 0.022; Preset Vout(V): 2.7; Rating: Catalog; Regulated Outputs(#): 1; SubFamily: Step-Down Regulator; Switch Current Limit(Typ)(A): 0.84; Synchronous Rectification: TRUE; Vin(Max)(V): 6; Vin(Min)(V): 2.05; DatasheetVersion: SLVS941E; PackageVersion: revF, Dec-2011; PackageReference: DRY6; PackageDescription: 6-Pin Plastic Small Outline No-Lead, 1 x 1.45 x 0.6 mm Body, 0.5 mm Pitch; Supplier 1: Digi-Key; Supplier Part Number 1: TPS622316DRYR-ND; Supplier 2: Mouser; Supplier Part Number 2: 595-TPS622316DRYR; Eco-Plan: Green (RoHS & no Sb/Br); Topology: Buck; Vout(Max)(V): 2.7; Vout(Min)(V): 2.7; Mounting Technology: Surface Mount; ComponentLink1Description: Datasheet; ComponentLink1URL: http://www.ti.com/general/docs/lit/getliterature.tsp?genericPartNumber=TPS622316&fileType=pdf; ComponentLink2Description: URL Link1; ComponentLink2URL: Samples URL:http://www.ti.com/product/tps622316#samples
footprint DRY6 (PSON, 6-Leads, Body 1x1.45mm, Pitch 0.5mm, TI Recommended)
pins: 1 MODE (in) "MODE pin = high forces the device to operate in PWM mode. Mode = low enables the Power Save Mode with automatic transition from PFM (Pulse frequency mode) to PWM (pulse width modulation) mode.", 2 SW (power) "This is the switch pin and is connected to the internal MOSFET switches. Connect the inductor to this terminal", 3 VIN (power) "VIN power supply pin.", 4 GND (power) "GND supply pin", 5 EN (in) "This is the enable pin of the device. Pulling this pin to low forces the device into shutdown mode. Pulling this pin to high enables the device. This pin must be terminated.", 6 FB (in) "Feedback Pin for the internal regulation loop. Connect this pin directly to the output capacitor."

## TPS622316DRYT
designator U?
Buck Step Down Regulator with 2.05 to 6 V Input and 2.7 V Output, -40 to 85 degC, 6-Pin SON (DRY), Green (RoHS & no Sb/Br); PartNumber: TPS622316DRYT; Manufacturer: Texas Instruments; Duty Cycle(Max)(%): 100; Iout(Max)(A): 0.5; Iq(Typ)(mA): 0.022; Preset Vout(V): 2.7; Rating: Catalog; Regulated Outputs(#): 1; SubFamily: Step-Down Regulator; Switch Current Limit(Typ)(A): 0.84; Synchronous Rectification: TRUE; Vin(Max)(V): 6; Vin(Min)(V): 2.05; DatasheetVersion: SLVS941E; PackageVersion: revF, Dec-2011; PackageReference: DRY6; PackageDescription: 6-Pin Plastic Small Outline No-Lead, 1 x 1.45 x 0.6 mm Body, 0.5 mm Pitch; Supplier 1: Digi-Key; Supplier Part Number 1: 296-27850-2-ND; Supplier 2: Digi-Key; Supplier Part Number 2: 296-27850-1-ND; Supplier 3: Digi-Key; Supplier Part Number 3: 296-27850-6-ND; Supplier 4: Newark; Supplier Part Number 4: 01T0849; Supplier 5: Mouser; Supplier Part Number 5: 595-TPS622316DRYT; Eco-Plan: Green (RoHS & no Sb/Br); Topology: Buck; Vout(Max)(V): 2.7; Vout(Min)(V): 2.7; Mounting Technology: Surface Mount; ComponentLink1Description: Datasheet; ComponentLink1URL: http://www.ti.com/general/docs/lit/getliterature.tsp?genericPartNumber=TPS622316&fileType=pdf; ComponentLink2Description: URL Link1; ComponentLink2URL: Samples URL:http://www.ti.com/product/tps54611#samples
footprint DRY6 (PSON, 6-Leads, Body 1x1.45mm, Pitch 0.5mm, TI Recommended)
pins: 1 MODE (in) "MODE pin = high forces the device to operate in PWM mode. Mode = low enables the Power Save Mode with automatic transition from PFM (Pulse frequency mode) to PWM (pulse width modulation) mode.", 2 SW (power) "This is the switch pin and is connected to the internal MOSFET switches. Connect the inductor to this terminal", 3 VIN (power) "VIN power supply pin.", 4 GND (power) "GND supply pin", 5 EN (in) "This is the enable pin of the device. Pulling this pin to low forces the device into shutdown mode. Pulling this pin to high enables the device. This pin must be terminated.", 6 FB (in) "Feedback Pin for the internal regulation loop. Connect this pin directly to the output capacitor."